# EAGLE library part C10418 (library water-lib)
USB Connectors SMD RoHS Source: Datasheet <https://datasheet.lcsc.com/szlcsc/Jing-Extension-of-the-Electronic-Co-LCSC-MICRO-USB-5S-B-Type-horns-High-temperature_C10418.pdf>
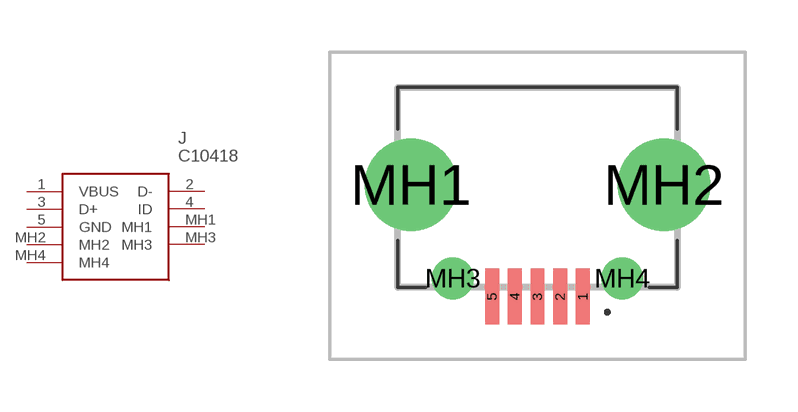
[diagram p5: symbol with the pads of C10418; footprint C10418]

Designator prefix J

## C10418 (DESCRIPTION: USB Connectors SMD RoHS; HEIGHT: 3.15mm; MANUFACTURER_NAME: Jing Extension of the Electronic Co.; MANUFACTURER_PART_NUMBER: C10418)  [C10418]
1  VBUS
2  D-
3  D+
4  ID
5  GND
MH1  MH1
MH2  MH2
MH3  MH3
MH4  MH4

## Footprint C10418 (pad centres in mm)
SMD USB
smd 0.4 x 1.6: 1 1.3,-3; 2 0.65,-3; 3 0,-3; 4 -0.65,-3; 5 -1.3,-3
drill 1.76 pad 2.64: MH1 -3.625,0.2; MH2 3.625,0.2
drill 0.7 pad 1.2: MH3 -2.425,-2.48; MH4 2.425,-2.48